# EAGLE library part 750311797 (library WE-PP_TRANSFORMER)
Würth 750311797 Pri Inductance: 14µH Leak Inductance: 210nH Turns: Pri:Sec:Fb - 2.5:1:1 Isat(Pri): 11.5A DCR: Pri: 55mΩ Sec: 12mΩ Fb: 70mΩ Insulation: 4kV
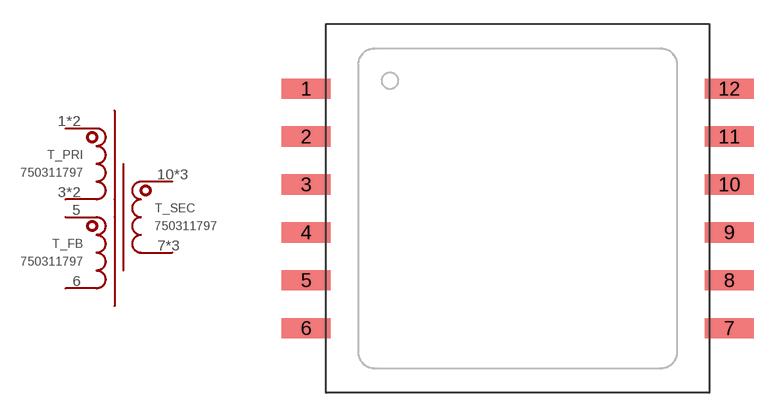
[diagram p7: symbol with the pads of 750311797; footprint 750311797]

Designator prefix T; gates _PRI=WINDING-SINGLE-LEFT _SEC=WINDING-SINGLE-RIGHT _FB=WINDING-SINGLE-LEFT

## 750311797 (MF: Würth Elektronik; MPN: 750311797)  [750311797]
1  _PRI:1
2  _PRI:1
3  _PRI:2
4  _PRI:2
5  _FB:1
6  _FB:2
7  _SEC:2
8  _SEC:2
9  _SEC:2
10  _SEC:1
11  _SEC:1
12  _SEC:1

## Footprint 750311797 (pad centres in mm)
smd 3.05 x 1.27: 1 -13.26,7.5; 2 -13.26,4.5; 3 -13.26,1.5; 4 -13.26,-1.5; 5 -13.26,-4.5; 6 -13.26,-7.5; 7 13.26,-7.5; 8 13.26,-4.5; 9 13.26,-1.5; 10 13.26,1.5; 11 13.26,4.5; 12 13.26,7.5